# Altium footprint library ESD122DMXR.PcbLib: 1 footprints
Each footprint in its own frame and in the unit in brackets; x right, y up, seen from the top. Pads: shape width x height; smd on the part's side, far side on the other; paste and mask are expansions set on the pad; w line width, h text height; cw(c..) or ccw(c..) is an arc to the next point about the centre after c.
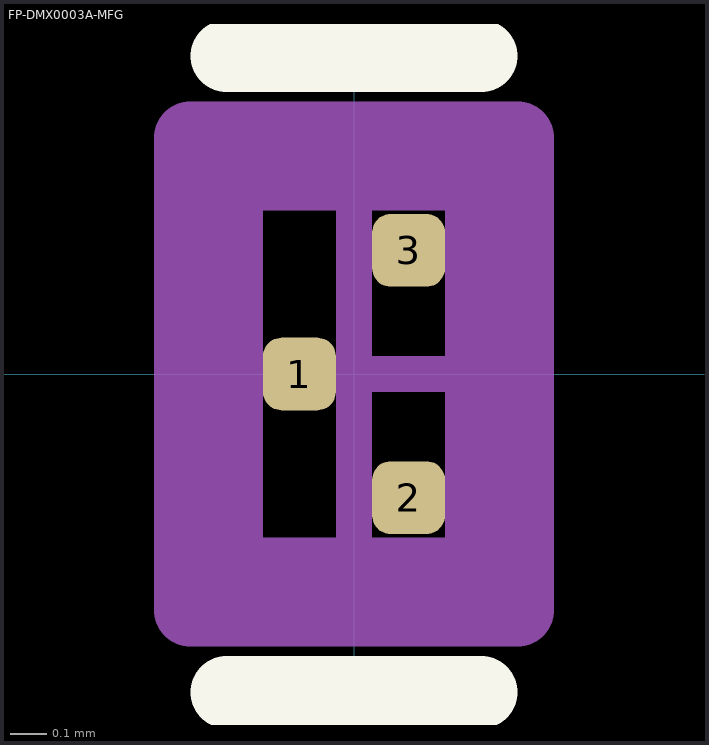
[diagram p0: the footprint, top view; thin cyan lines are the x and y axes]

## FP-DMX0003A-MFG [mm]
pads (3):
  rrect50% 0.2x0.2 smd paste-1000 mask-1000: 1(-0.15,0) 2(0.15,-0.34) 3(0.15,0.34)
Top Overlay:
  lines w0.2: -0.35,-0.875 0.35,-0.875 ; -0.35,0.875 0.35,0.875
Top Paste:
  region: -0.095,0.105 -0.085,0.105 -0.067,0.097 -0.053,0.083 -0.045,0.065 -0.045,0.055 -0.045,-0.055 -0.045,-0.065 -0.053,-0.083 -0.067,-0.097 -0.085,-0.105 -0.095,-0.105 -0.205,-0.105 -0.215,-0.105 -0.233,-0.097 -0.247,-0.083 -0.255,-0.065 -0.255,-0.055 -0.255,0.055 -0.255,0.065 -0.247,0.083 -0.233,0.097 -0.215,0.105 -0.205,0.105
  region: 0.045,0.285 0.045,0.395 0.045,0.405 0.053,0.423 0.067,0.437 0.085,0.445 0.095,0.445 0.205,0.445 0.215,0.445 0.233,0.437 0.247,0.423 0.255,0.405 0.255,0.395 0.255,0.285 0.255,0.275 0.247,0.257 0.233,0.243 0.215,0.235 0.205,0.235 0.095,0.235 0.085,0.235 0.067,0.243 0.053,0.257 0.045,0.275
  region: 0.045,-0.395 0.045,-0.285 0.045,-0.275 0.053,-0.257 0.067,-0.243 0.085,-0.235 0.095,-0.235 0.205,-0.235 0.215,-0.235 0.233,-0.243 0.247,-0.257 0.255,-0.275 0.255,-0.285 0.255,-0.395 0.255,-0.405 0.247,-0.423 0.233,-0.437 0.215,-0.445 0.205,-0.445 0.095,-0.445 0.085,-0.445 0.067,-0.437 0.053,-0.423 0.045,-0.405
Top Solder:
  region: 0.1,-0.19 0.2,-0.19 0.22,-0.19 0.257,-0.205 0.285,-0.233 0.3,-0.27 0.3,-0.29 0.3,-0.39 0.3,-0.41 0.285,-0.447 0.257,-0.475 0.22,-0.49 0.2,-0.49 0.1,-0.49 0.08,-0.49 0.043,-0.475 0.015,-0.447 0,-0.41 0,-0.39 0,-0.29 0,-0.27 0.015,-0.233 0.043,-0.205 0.08,-0.19
  region: 0.1,0.19 0.08,0.19 0.043,0.205 0.015,0.233 0,0.27 0,0.29 0,0.39 0,0.41 0.015,0.447 0.043,0.475 0.08,0.49 0.1,0.49 0.2,0.49 0.22,0.49 0.257,0.475 0.285,0.447 0.3,0.41 0.3,0.39 0.3,0.29 0.3,0.27 0.285,0.233 0.257,0.205 0.22,0.19 0.2,0.19
  region: -0.1,-0.15 -0.2,-0.15 -0.22,-0.15 -0.257,-0.135 -0.285,-0.107 -0.3,-0.07 -0.3,-0.05 -0.3,0.05 -0.3,0.07 -0.285,0.107 -0.257,0.135 -0.22,0.15 -0.2,0.15 -0.1,0.15 -0.08,0.15 -0.043,0.135 -0.015,0.107 0,0.07 0,0.05 0,-0.05 0,-0.07 -0.015,-0.107 -0.043,-0.135 -0.08,-0.15
Top Assembly:
  lines w0.2: -0.45,-0.65 -0.45,0.65 0.45,0.65 0.45,-0.65 -0.45,-0.65
  text ".Designator" at 0,0.188 h1
Top 3D Body:
  lines w0.2: -0.35,-0.55 -0.35,0.55 0.35,0.55 0.35,-0.55 -0.35,-0.55
Top Courtyard:
  lines w0.2: -0.45,-0.65 -0.45,0.65 0.45,0.65 0.45,-0.65 -0.45,-0.65
Top Component Center:
  lines w0.1: -0.5,0 0.5,0 ; 0,-0.5 0,0.5
3D body "Diode_Texas_Instruments_ESD122DMXR_eec.STEP": height 0.25, standoff 0, extent -0.45,-0.65 0.45,0.65